# Altium footprint library badge.PcbLib: 33 footprints (part 1 of 3)
Each footprint in its own frame and in the unit in brackets; x right, y up, seen from the top. Pads: shape width x height; smd on the part's side, far side on the other; paste and mask are expansions set on the pad; w line width, h text height; cw(c..) or ccw(c..) is an arc to the next point about the centre after c.
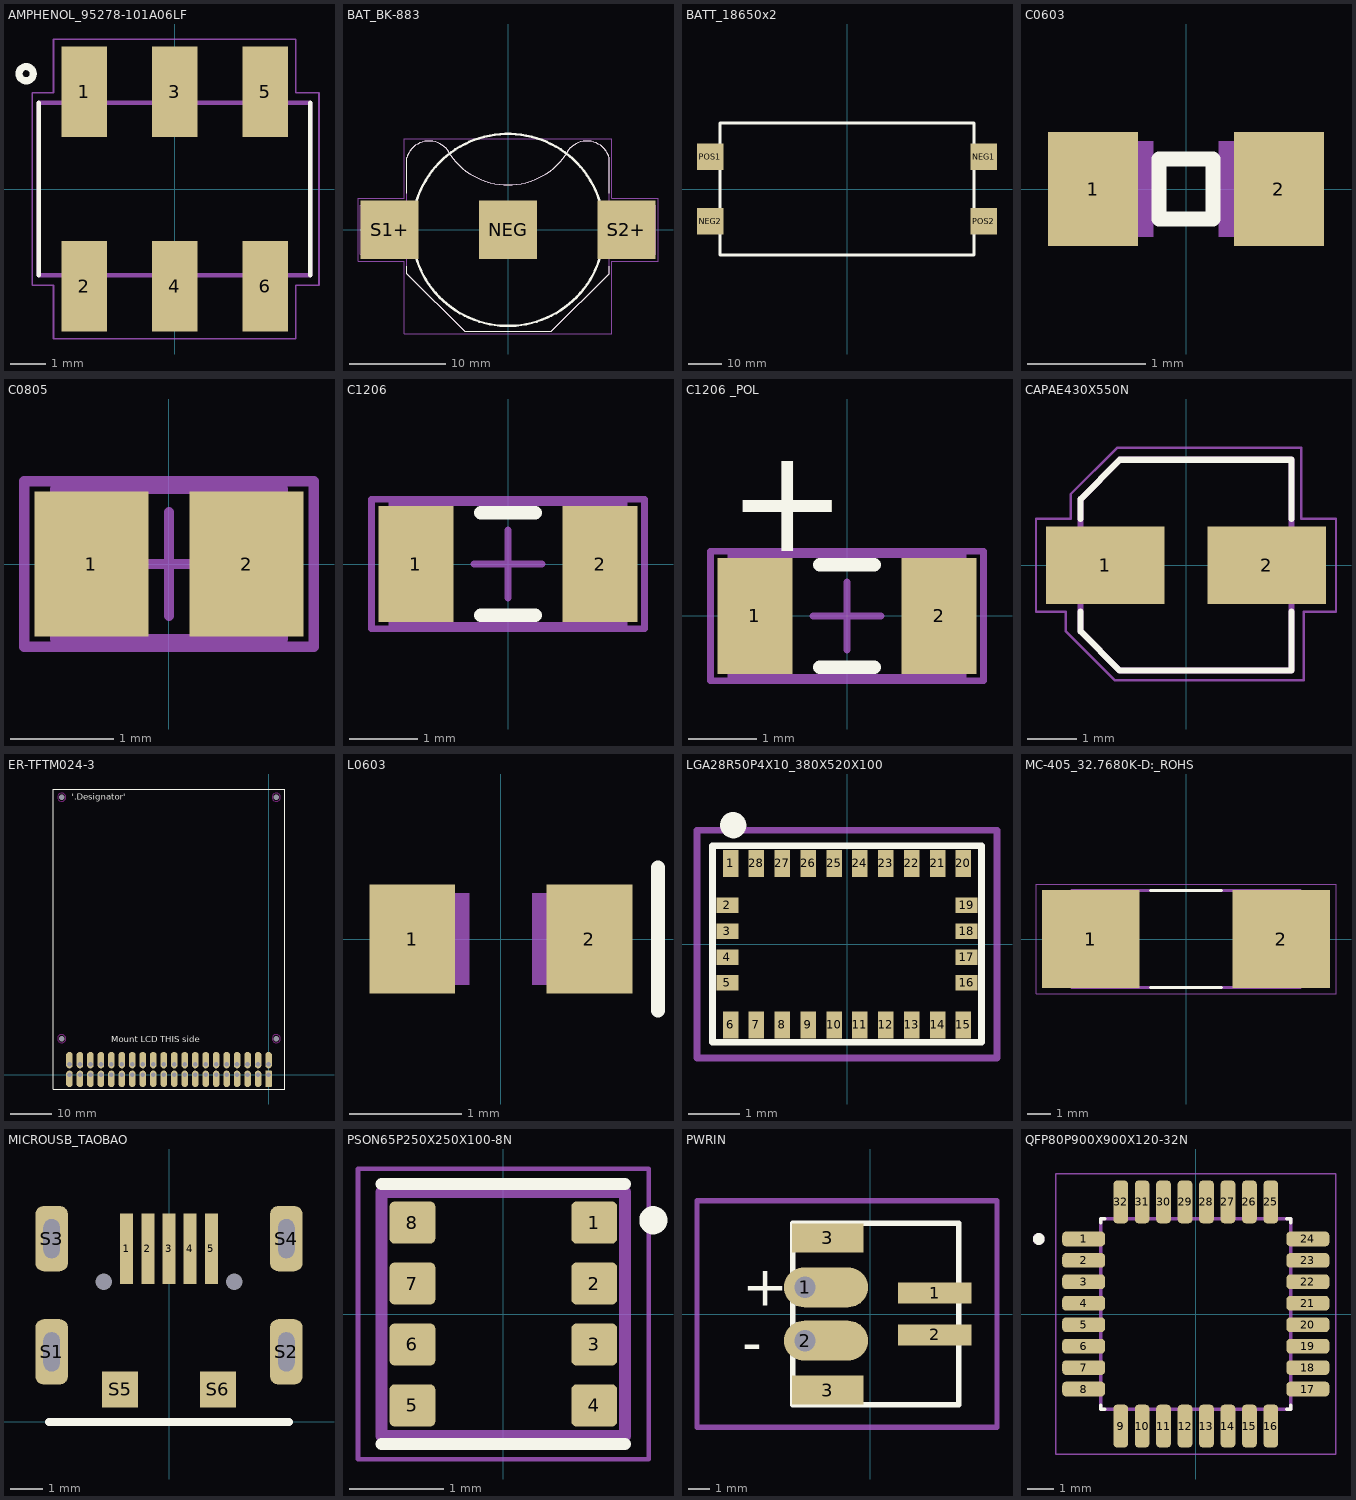
[diagram p0: the footprints below, top view; thin cyan lines are the x and y axes]

## AMPHENOL_95278-101A06LF [mm]
pads (6):
  rect 1.27x2.54 smd: 1(-2.54,2.73) 2(-2.54,-2.73) 3(0,2.73) 4(0,-2.73) 5(2.54,2.73) 6(2.54,-2.73)
Top Overlay:
  circle w0.2: c-4.17,3.235 r0.2
  lines w0.127: -3.81,-2.415 -3.81,2.415 ; 3.81,-2.415 3.81,2.415
Mechanical 13:
  lines w0.127: -3.81,-2.415 -3.81,2.415 3.81,2.415 3.81,-2.415 -3.81,-2.415
Mechanical 15:
  lines w0.05: -4,-2.7 -4,2.7 -3.4,2.7 -3.4,4.2 3.4,4.2 3.4,2.7 4.05,2.7 4.05,-2.7 3.4,-2.7 3.4,-4.2 -3.4,-4.2 -3.4,-2.7 -4,-2.7
3D body "AMPHENOLICC_20021121-00010C4LF.STEP": height 5.8, standoff 0, extent -3.175,-1.715 3.175,1.715

## BAT_BK-883 [mm]
pads (3):
  rect 6.07x6.07 smd paste-4: NEG(0,0)
  rect 6.07x6.07 smd: S1+(-12.33,0) S2+(12.33,0)
Top Overlay:
  circle w0.254: c0,0 r10
  lines w0.127: -10.561,7.48 cw(c-8.222,6.81) -6,7.799 ; -10.555,-3.81 -10.555,-4.58 -4.5,-10.57 4.5,-10.57 10.555,-4.58 10.555,-3.81 ; -10.555,3.81 -10.555,7.5 ; -6,7.8 ccw(c0,12.001) 6,7.8 ; 6,7.799 cw(c8.222,6.81) 10.561,7.48 ; 10.555,3.81 10.555,7.5
Mechanical 13:
  lines w0.127: -10.561,7.48 cw(c-8.222,6.81) -6,7.799 ; -10.555,7.5 -10.555,2.54 -15.365,2.54 -15.365,-2.54 -10.555,-2.54 -10.555,-4.58 -4.5,-10.57 4.5,-10.57 10.555,-4.58 10.555,-2.54 15.365,-2.54 15.365,2.54 10.555,2.54 10.555,7.5 ; -6,7.8 ccw(c0,12.001) 6,7.8 ; 6,7.799 cw(c8.222,6.81) 10.561,7.48
Mechanical 15:
  lines w0.05: -15.615,-3.285 -10.805,-3.285 -10.805,-10.82 10.805,-10.82 10.805,-3.285 15.615,-3.285 15.615,3.285 10.805,3.285 10.805,9.49 -10.805,9.49 -10.805,3.285 -15.615,3.285 -15.615,-3.285
3D body "BK-883--3DModel-STEP-1.STEP": height 3.96, standoff 0, extent -15.365,-10.405 15.365,9.405

## BATT_18650x2 [mm]
pads (4):
  rect 8x8 smd: NEG1(41.5,9.8) NEG2(-41.5,-9.8) POS1(-41.5,9.8) POS2(41.5,-9.8)
Top Overlay:
  lines w1: -38.5,-20 38.5,-20 38.5,20 -38.5,20 -38.5,-20
3D body "batt_2x18650.step": height 15, standoff 0, extent -43.1,-19.8 43.1,19.8

## C0603 [mil]
pads (2):
  rect 30x38 smd: 1(-31,0) 2(31,0)
Top Overlay:
  lines w5: -9,-10 -9,10 9,10 9,-10 -9,-10
Mechanical 13:
  region: 25,-16 11,-16 11,16 25,16
  region: -11,-16 -25,-16 -25,16 -11,16
3D body "CAPC160X80X92L35.STEP": height 36.22, standoff 0, extent -31.5,-15.75 31.5,15.74

## C0805 [mm] "Chip Capacitor, Body 2.0x1.3mm, IPC High Density"
height 1.4
pads (2):
  rect 1.1x1.4 smd: 1(-0.75,0) 2(0.75,0)
Mechanical 13:
  lines w0.1: -1.1,-0.725 1.1,-0.725 1.1,0.725 -1.1,0.725 -1.1,-0.725
Mechanical 15:
  lines w0.1: -0.5,0 0.5,0 ; 0,-0.5 0,0.5 ; -1.4,-0.8 1.4,-0.8 1.4,0.8 -1.4,0.8 -1.4,-0.8
3D body: height 1.4, standoff 0, extent -1.1,-0.725 1.1,0.725
3D body "CAPC200X125X140L50.STEP": height 1.4, standoff 0, extent -1,-0.625 1,0.625

## C1206 [mm] "Chip Capacitor, Body 3.2x1.6mm, IPC High Density"
height 1.3
pads (2):
  rect 1.1x1.7 smd: 1(-1.35,0) 2(1.35,0)
Top Overlay:
  lines w0.2: -0.4,-0.75 0.4,-0.75 ; -0.4,0.75 0.4,0.75
Mechanical 13:
  lines w0.1: -1.7,-0.9 -1.7,0.9 1.7,0.9 1.7,-0.9 -1.7,-0.9
Mechanical 15:
  lines w0.1: -0.5,0 0.5,0 ; 0,-0.5 0,0.5 ; -2,-0.95 -2,0.95 2,0.95 2,-0.95 -2,-0.95
3D body: height 1.3, standoff 0, extent -1.7,-0.9 1.7,0.9

## C1206 _POL [mm] "Chip Capacitor, Body 3.2x1.6mm, IPC High Density"
height 1.3
pads (2):
  rect 1.1x1.7 smd: 1(-1.35,0) 2(1.35,0)
Top Overlay:
  lines w0.2: -0.4,-0.75 0.4,-0.75 ; -0.4,0.75 0.4,0.75
  text "+" at -1.746,0.95 h1.52
Mechanical 13:
  lines w0.1: -1.7,-0.9 -1.7,0.9 1.7,0.9 1.7,-0.9 -1.7,-0.9
Mechanical 15:
  lines w0.1: -0.5,0 0.5,0 ; 0,-0.5 0,0.5 ; -2,-0.95 -2,0.95 2,0.95 2,-0.95 -2,-0.95
3D body: height 1.3, standoff 0, extent -1.7,-0.9 1.7,0.9

## CAPAE430X550N [mm]
pads (2):
  rect 2.42x1.58 smd: 1(-1.65,0) 2(1.65,0)
Top Overlay:
  lines w0.127: -2.15,-0.95 -2.15,-1.35 -1.35,-2.15 2.15,-2.15 2.15,-0.95 ; -2.15,0.95 -2.15,1.35 -1.35,2.15 2.15,2.15 2.15,0.95
Mechanical 13:
  lines w0.127: -2.15,-1.35 -2.15,1.35 -1.35,2.15 2.15,2.15 2.15,-2.15 -1.35,-2.15 -2.15,-1.35
Mechanical 15:
  lines w0.05: -3.06,-0.95 -3.06,0.95 -2.35,0.95 -2.35,1.45 -1.4,2.4 2.35,2.4 2.35,0.95 3.06,0.95 3.06,-0.95 2.4,-0.95 2.4,-2.35 -1.45,-2.35 -2.45,-1.35 -2.45,-0.95 -3.06,-0.95

## ER-TFTM024-3 [mm] "ER-TFTM024-3 TFT LCD Module"
pads (44):
  rrect25% 1.6x4 hole 1.16 copper offset 0,-1: 1(0,0)
  oval 1.6x4 hole 1.16 copper offset 0,1: 2(0,2.54) 4(-2.54,2.54) 6(-5.08,2.54) 8(-7.62,2.54) 10(-10.16,2.54) 12(-12.7,2.54) 14(-15.24,2.54) 16(-17.78,2.54) 18(-20.32,2.54) 20(-22.86,2.54) 22(-25.4,2.54) 24(-27.94,2.54) 26(-30.48,2.54) 28(-33.02,2.54) 30(-35.56,2.54) 32(-38.1,2.54) 34(-40.64,2.54) 36(-43.18,2.54) 38(-45.72,2.54) 40(-48.26,2.54)
  oval 1.6x4 hole 1.16 copper offset 0,-1: 3(-2.54,0) 5(-5.08,0) 7(-7.62,0) 9(-10.16,0) 11(-12.7,0) 13(-15.24,0) 15(-17.78,0) 17(-20.32,0) 19(-22.86,0) 21(-25.4,0) 23(-27.94,0) 25(-30.48,0) 27(-33.02,0) 29(-35.56,0) 31(-38.1,0) 33(-40.64,0) 35(-43.18,0) 37(-45.72,0) 39(-48.26,0)
  round 0 hole 1.4 unplated: H1(1.87,8.74) H2(1.87,67.24) H3(-50.13,8.74) H4(-50.13,67.24)
Top Overlay:
  lines w0.254: -52.13,-3.46 -52.13,69.24 3.87,69.24 3.87,-3.46 -52.13,-3.46
  text "'.Designator'" at -47.752,66.675 h1.52
  text "Mount LCD THIS side" at -38.16,7.843 h1.52
Keep-Out Layer:
  circle w0.254: c1.87,67.24 r1
  circle w0.254: c1.87,8.74 r1
  circle w0.254: c-50.13,8.74 r1
  circle w0.254: c-50.13,67.24 r1
3D body "lcd.step": height 12.6, standoff 0, extent -52.13,-3.46 3.87,69.24

## L0603 [mil]
pads (2):
  rect 30x38 smd: 1(-31,0) 2(31,0)
Top Overlay:
  lines w5: 55,-25 55,25
Mechanical 13:
  region: -11,-16 -25,-16 -25,16 -11,16
  region: 25,-16 11,-16 11,16 25,16

## LGA28R50P4X10_380X520X100 [mm]
pads (28):
  rect 0.3x0.525 smd: 1(-2.25,1.562) 6(-2.25,-1.562) 7(-1.75,-1.562) 8(-1.25,-1.562) 9(-0.75,-1.562) 10(-0.25,-1.562) 11(0.25,-1.562) 12(0.75,-1.562) 13(1.25,-1.562) 14(1.75,-1.562) 15(2.25,-1.562) 20(2.25,1.562) 21(1.75,1.562) 22(1.25,1.562) 23(0.75,1.562) 24(0.25,1.562) 25(-0.25,1.562) 26(-0.75,1.562) 27(-1.25,1.562) 28(-1.75,1.562)
  rect 0.425x0.3 smd: 2(-2.312,0.75) 3(-2.312,0.25) 4(-2.312,-0.25) 5(-2.312,-0.75) 16(2.312,-0.75) 17(2.312,-0.25) 18(2.312,0.25) 19(2.312,0.75)
Top Overlay:
  circle w0.305: c-2.2,2.3 r0.1
  lines w0.127: -2.6,-1.9 2.6,-1.9 2.6,1.9 -2.6,1.9 -2.6,-1.9
Mechanical 15:
  lines w0.127: -2.9,-2.2 -2.9,2.2 2.9,2.2 2.9,-2.2 -2.9,-2.2
3D body "BOSCH_BNO055.STEP": height 1.18, standoff 0, extent -2.6,-1.9 2.6,1.9

## MC-405_32.7680K-D:_ROHS [mm]
pads (2):
  rect 4.1x4.1 smd: 1(-4,0) 2(4,0)
Top Overlay:
  lines w0.127: -1.5,-2.03 1.5,-2.03 ; -1.5,2.03 1.5,2.03
Mechanical 13:
  lines w0.127: -4.8,-2.03 -4.8,2.03 4.8,2.03 4.8,-2.03 -4.8,-2.03
Mechanical 15:
  lines w0.05: -6.3,-2.3 -6.3,2.3 6.3,2.3 6.3,-2.3 -6.3,-2.3

## MICROUSB_TAOBAO [mm]
pads (13):
  rect 0.4x2.15 smd: 1(-1.3,5.31) 2(-0.65,5.31) 3(0,5.31) 4(0.65,5.31) 5(1.3,5.31)
  round 0 hole 0.5: H1(-2,4.3) H2(2,4.3)
  rrect50% 1x2 hole 0.5 slot 1.2 at 90 deg: S1(-3.6,2.15) S2(3.6,2.15) S3(-3.6,5.62) S4(3.6,5.62)
  rect 1.1x1.1 smd: S5(-1.5,1) S6(1.5,1)
Top Overlay:
  lines w0.254: -3.683,0 3.683,0

## PSON65P250X250X100-8N [mm]
pads (8):
  rrect25% 0.49x0.45 smd: 1(0.97,0.975) 2(0.97,0.325) 3(0.97,-0.325) 4(0.97,-0.975) 5(-0.97,-0.975) 6(-0.97,-0.325) 7(-0.97,0.325) 8(-0.97,0.975)
Top Overlay:
  circle w0.2: c1.6,1 r0.05
  lines w0.127: -1.3,-1.385 1.3,-1.385 ; -1.3,1.385 1.3,1.385
Mechanical 13:
  circle w0.2: c1,1 r0.05
  lines w0.127: -1.3,-1.3 1.3,-1.3 1.3,1.3 -1.3,1.3 -1.3,-1.3
Mechanical 15:
  lines w0.05: -1.55,-1.55 -1.55,1.55 1.55,1.55 1.55,-1.55 -1.55,-1.55
3D body "BOSCH_BME280.STEP": height 1, standoff 0, extent -1.25,-1.25 1.25,1.25

## PWRIN [mm]
pads (6):
  oval 4x1.905 hole 1.016 copper offset 1,0: 1(-3.111,1.27) 2(-3.111,-1.27)
  rect 3.5x1 smd: 1(3.06,1) 2(3.06,-1)
  rect 3.4x1.4 smd: 3(-2.02,-3.62) 3(-2.02,3.62)
Top Overlay:
  lines w0.254: -3.69,-4.314 -3.69,4.314 4.21,4.314 4.21,-4.314 -3.69,-4.314
  text "-" at -6.096,-2.286 h1.91
  text "+" at -6.096,0.381 h1.91
Mechanical 15:
  lines w0.254: -8.255,-5.398 6.032,-5.398 6.032,5.398 -8.255,5.398 -8.255,-5.398

## QFP80P900X900X120-32N [mm]
pads (32):
  rrect53% 1.6x0.55 smd: 1(-4.18,2.8) 2(-4.18,2) 3(-4.18,1.2) 4(-4.18,0.4) 5(-4.18,-0.4) 6(-4.18,-1.2) 7(-4.18,-2) 8(-4.18,-2.8) 17(4.18,-2.8) 18(4.18,-2) 19(4.18,-1.2) 20(4.18,-0.4) 21(4.18,0.4) 22(4.18,1.2) 23(4.18,2) 24(4.18,2.8)
  rrect53% 0.55x1.6 smd: 9(-2.8,-4.18) 10(-2,-4.18) 11(-1.2,-4.18) 12(-0.4,-4.18) 13(0.4,-4.18) 14(1.2,-4.18) 15(2,-4.18) 16(2.8,-4.18) 25(2.8,4.18) 26(2,4.18) 27(1.2,4.18) 28(0.4,4.18) 29(-0.4,4.18) 30(-1.2,4.18) 31(-2,4.18) 32(-2.8,4.18)
Top Overlay:
  circle w0.24: c-5.853,2.797 r0.1
  lines w0.127: -3.55,-3.4 -3.55,-3.55 -3.4,-3.55 ; -3.55,3.4 -3.55,3.55 -3.4,3.55 ; 3.4,-3.55 3.55,-3.55 3.55,-3.4 ; 3.4,3.55 3.55,3.55 3.55,3.4
Mechanical 13:
  circle w0.24: c-5.858,2.797 r0.1
  lines w0.127: -3.55,-3.55 -3.55,3.55 3.55,3.55 3.55,-3.55 -3.55,-3.55
Mechanical 15:
  lines w0.05: -5.23,-5.23 -5.23,5.23 5.23,5.23 5.23,-5.23 -5.23,-5.23
3D body "QFP32P80_900X900X120L60X37.STEP": height 1.2, standoff 0, extent -4.5,-4.5 4.5,4.5